# Altium schematic symbol library TTP223-BA6.SchLib: 1 symbol
Pins are listed as number, name and electrical type; pins without a type are passive.

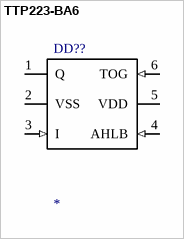
[diagram p0: symbol TTP223-BA6]

## TTP223-BA6
designator DD??
1 KEY TOUCH PAD DETECTOR IC
footprint SOT23-6
pins: 1 Q (power), 2 VSS (power), 3 I (in), 4 AHLB (in), 5 VDD (power), 6 TOG (in)